# Altium schematic symbol library Header-1X8.Schlib: 1 symbol
Pins are listed as number, name and electrical type; pins without a type are passive.

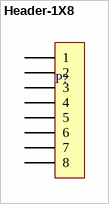
[diagram p0: symbol Header-1X8]

## Header-1X8
designator P?
Header-1X8
pins: 1, 2, 3, 4, 5, 6, 7, 8